# EAGLE library part 634008138121 (library EagleLibrary_Wuerth_Elektronik_eiCan_Communication_Connectors_v6_20150113)
WR-MJ Vertical Plastic 8P8C SMT Modular Jack,8 pins=>Code : Con_I-O_MJ-V_Plastic_615008138121 <http://katalog.we-online.de/media/images/eican/Con_I-O_MJ-V_Plastic_615008138121_pf2.jpg> Details see: http://katalog.we-online.de/en/em/634_008_138_121 Created 2014-07-10, Karrer Zheng 2014 (C) Würth Elektronik
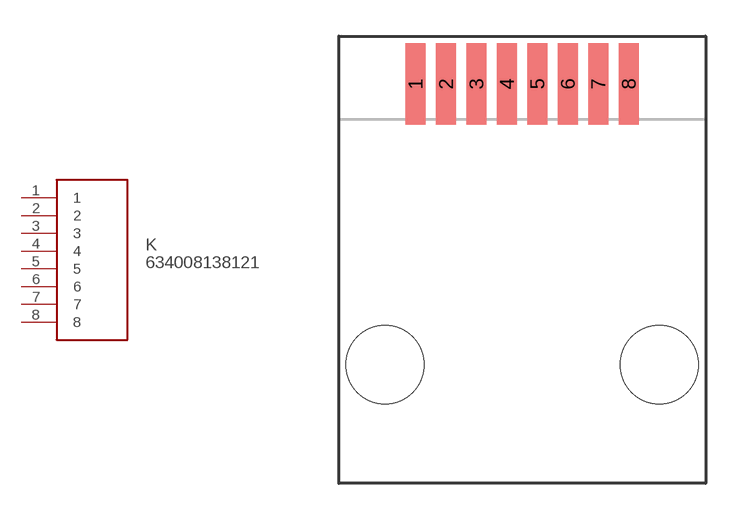
[diagram p139: symbol with the pads of 634008138121; footprint 634008138121]

Designator prefix K

## 634008138121  [634008138121]
1  1  pas
2  2  pas
3  3  pas
4  4  pas
5  5  pas
6  6  pas
7  7  pas
8  8  pas

## Footprint 634008138121 (pad centres in mm)
WR-MJ Vertical Plastic 8P8C SMT Modular Jack,8 pins
smd 0.84 x 3.4: 1 -4.445,0; 2 -3.175,0; 3 -1.905,0; 4 -0.635,0; 5 0.635,0; 6 1.905,0; 7 3.175,0; 8 4.445,0
hole 3.25 at -5.715,-11.7
hole 3.25 at 5.715,-11.7